# EAGLE library part BB_XQFP_080_065 (library dp_devices)
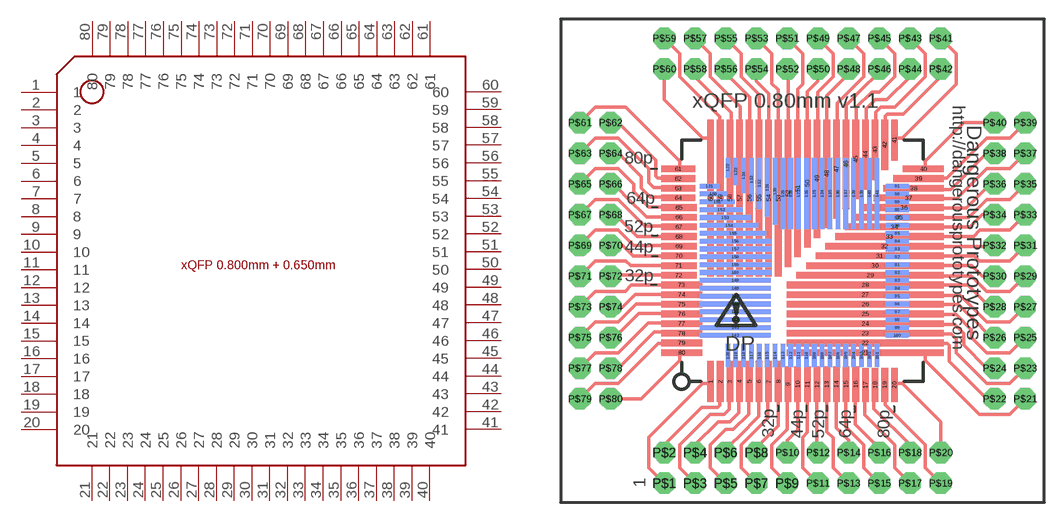
[diagram p127: symbol with the pads of BB_QFP_080_065_BREAKOUT_BOARD; footprint BB_QFP_080_065_BREAKOUT_BOARD]

Designator prefix IC

## BB_XQFP_080_065  [BB_QFP_080_065_BREAKOUT_BOARD]
1  1
2  2
3  3
4  4
5  5
6  6
7  7
8  8
9  9
10  10
11  11
12  12
13  13
14  14
15  15
16  16
17  17
18  18
19  19
20  20
21  21
22  22
23  23
24  24
25  25
26  26
27  27
28  28
29  29
30  30
31  31
32  32
33  33
34  34
35  35
36  36
37  37
38  38
39  39
40  40
41  41
42  42
43  43
44  44
45  45
46  46
47  47
48  48
49  49
50  50
51  51
52  52
53  53
54  54
55  55
56  56
57  57
58  58
59  59
60  60
61  61
62  62
63  63
64  64
65  65
66  66
67  67
68  68
69  69
70  70
71  71
72  72
73  73
74  74
75  75
76  76
77  77
78  78
79  79
80  80

## Footprint BB_QFP_080_065_BREAKOUT_BOARD (pad centres in mm)
QFP 0.65 mm pitch 52p (10mm sq) 80p (14mm sq) QFP 0.8 mm pitch 32p (7mm sq) 44p (10mm sq) 64p (14mm sq) 80p (16.5mm sq) CC-BY-SA
smd 0.55 x 3.405: 1 -7.6,-9.998; 2 -6.8,-9.998; 3 -6,-9.998; 4 -5.2,-9.998; 5 -4.4,-9.998; 6 -3.6,-9.998; 7 -2.8,-9.998; 8 -2,-9.998; 41 7.6,9.997
smd 0.55 x 2.95: 9 -1.2,-10.225; 10 -0.4,-10.225; 11 0.4,-10.225; 12 1.2,-10.225; 13 2,-10.225; 14 2.8,-10.225; 15 3.6,-10.225; 16 4.4,-10.225
smd 0.55 x 2.85: 17 5.2,-10.275; 18 6,-10.275; 19 6.8,-10.275; 20 7.6,-10.275
smd 13.005 x 0.55: 21 5.197,-7.6; 22 5.197,-6.8; 23 5.197,-6; 24 5.197,-5.2; 25 5.197,-4.4; 26 5.197,-3.6; 27 5.197,-2.8; 28 5.197,-2
smd 12.205 x 0.55: 29 5.597,-1.2
smd 11.405 x 0.55: 30 5.997,-0.4
smd 10.605 x 0.55: 31 6.397,0.4
smd 9.805 x 0.55: 32 6.797,1.2
smd 9.005 x 0.55: 33 7.197,2
smd 8.205 x 0.55: 34 7.597,2.8
smd 7.405 x 0.55: 35 7.997,3.6
smd 6.605 x 0.55: 36 8.397,4.4
smd 5.805 x 0.55: 37 8.797,5.2
smd 5.005 x 0.55: 38 9.197,6
smd 4.205 x 0.55: 39 9.597,6.8
smd 3.405 x 0.55: 40 9.997,7.6; 73 -9.998,-2; 74 -9.998,-2.8; 75 -9.998,-3.6; 76 -9.998,-4.4; 77 -9.998,-5.2; 78 -9.998,-6; 79 -9.998,-6.8; 80 -9.998,-7.6
smd 0.55 x 4.205: 42 6.8,9.597
smd 0.55 x 5.005: 43 6,9.197
smd 0.55 x 5.805: 44 5.2,8.797
smd 0.55 x 6.605: 45 4.4,8.397
smd 0.55 x 7.405: 46 3.6,7.997
smd 0.55 x 8.205: 47 2.8,7.597
smd 0.55 x 9.005: 48 2,7.197
smd 0.55 x 9.805: 49 1.2,6.797
smd 0.55 x 10.605: 50 0.4,6.397
smd 0.55 x 11.405: 51 -0.4,5.997
smd 0.55 x 12.205: 52 -1.2,5.597
smd 0.55 x 13.005: 53 -2,5.198; 54 -2.8,5.198; 55 -3.6,5.198; 56 -4.4,5.198; 57 -5.2,5.198; 58 -6,5.198; 59 -6.8,5.198; 60 -7.6,5.198
smd 2.85 x 0.55: 61 -10.275,7.6; 62 -10.275,6.8; 63 -10.275,6; 64 -10.275,5.2
smd 2.95 x 0.55: 65 -10.225,4.4; 66 -10.225,3.6; 67 -10.225,2.8; 68 -10.225,2; 69 -10.225,1.2; 70 -10.225,0.4; 71 -10.225,-0.4; 72 -10.225,-1.2
smd 1.875 x 0.38 bottom: 81 7.838,-0.325; 82 7.838,0.325; 83 7.838,0.975; 84 7.838,1.625; 85 7.838,2.275; 86 7.838,2.925; 87 7.838,3.575; 88 7.838,4.225; 89 7.838,4.875; 90 7.838,5.525; 91 7.838,6.175; 92 7.838,-0.975; 93 7.838,-1.625; 94 7.838,-2.275; 95 7.838,-2.925; 96 7.838,-3.575; 97 7.838,-4.225; 98 7.838,-4.875; 99 7.838,-5.525; 100 7.838,-6.175
smd 0.38 x 1.875 bottom: 101 6.175,-7.838; 102 5.525,-7.838; 103 4.875,-7.838; 104 4.225,-7.838; 105 3.575,-7.838; 106 2.925,-7.838; 107 2.275,-7.838; 108 1.625,-7.838; 109 0.975,-7.838; 110 0.325,-7.838; 111 -0.325,-7.838; 112 -0.975,-7.838; 113 -1.625,-7.838; 114 -2.275,-7.838; 115 -2.925,-7.838; 116 -3.575,-7.838; 117 -4.225,-7.838; 118 -4.875,-7.838; 119 -5.525,-7.838; 120 -6.175,-7.838
smd 1.6 x 0.38 bottom: 121 -7.7,6.175
smd 0.38 x 1.6 bottom: 122 -6.175,7.7
smd 0.38 x 2.25 bottom: 123 -5.525,7.375
smd 0.38 x 5.875 bottom: 124 1.625,5.563; 125 0.975,5.563; 126 0.325,5.563; 127 -0.325,5.563; 128 -0.975,5.563; 129 -1.625,5.563; 135 2.275,5.563; 136 2.925,5.563; 137 3.575,5.563; 138 4.225,5.563; 139 4.875,5.563; 140 5.525,5.563; 141 6.175,5.563
smd 0.38 x 5.5 bottom: 130 -2.275,5.75
smd 0.38 x 4.85 bottom: 131 -2.925,6.075
smd 0.38 x 4.2 bottom: 132 -3.575,6.4
smd 0.38 x 3.55 bottom: 133 -4.225,6.725
smd 0.38 x 2.9 bottom: 134 -4.875,7.05
smd 5.875 x 0.38 bottom: 142 -5.563,-6.175; 143 -5.563,-5.525; 144 -5.563,-4.875; 145 -5.563,-4.225; 146 -5.563,-3.575; 147 -5.563,-2.925; 148 -5.563,-2.275; 149 -5.563,-1.625; 156 -5.563,1.625; 157 -5.563,0.975; 158 -5.563,0.325; 159 -5.563,-0.325; 160 -5.563,-0.975
smd 2.25 x 0.38 bottom: 150 -7.375,5.525
smd 2.9 x 0.38 bottom: 151 -7.05,4.875
smd 3.55 x 0.38 bottom: 152 -6.725,4.225
smd 4.2 x 0.38 bottom: 153 -6.4,3.575
smd 4.85 x 0.38 bottom: 154 -6.075,2.925
smd 5.5 x 0.38 bottom: 155 -5.75,2.275
drill 1.016 pad 1.778 octagon: P$1 -11.43,-18.415; P$2 -11.43,-15.875; P$3 -8.89,-18.415; P$4 -8.89,-15.875; P$5 -6.35,-18.415; P$6 -6.35,-15.875; P$7 -3.81,-18.415; P$8 -3.81,-15.875; P$9 -1.27,-18.415; P$10 -1.27,-15.875; P$11 1.27,-18.415; P$12 1.27,-15.875; P$13 3.81,-18.415; P$14 3.81,-15.875; P$15 6.35,-18.415; P$16 6.35,-15.875; P$17 8.89,-18.415; P$18 8.89,-15.875; P$19 11.43,-18.415; P$20 11.43,-15.875; P$21 18.415,-11.43; P$22 15.875,-11.43; P$23 18.415,-8.89; P$24 15.875,-8.89; P$25 18.415,-6.35; P$26 15.875,-6.35; P$27 18.415,-3.81; P$28 15.875,-3.81; P$29 18.415,-1.27; P$30 15.875,-1.27; P$31 18.415,1.27; P$32 15.875,1.27; P$33 18.415,3.81; P$34 15.875,3.81; P$35 18.415,6.35; P$36 15.875,6.35; P$37 18.415,8.89; P$38 15.875,8.89; P$39 18.415,11.43; P$40 15.875,11.43; P$41 11.43,18.415; P$42 11.43,15.875; P$43 8.89,18.415; P$44 8.89,15.875; P$45 6.35,18.415; P$46 6.35,15.875; P$47 3.81,18.415; P$48 3.81,15.875; P$49 1.27,18.415; P$50 1.27,15.875; P$51 -1.27,18.415; P$52 -1.27,15.875; P$53 -3.81,18.415; P$54 -3.81,15.875; P$55 -6.35,18.415; P$56 -6.35,15.875; P$57 -8.89,18.415; P$58 -8.89,15.875; P$59 -11.43,18.415; P$60 -11.43,15.875; P$61 -18.415,11.43; P$62 -15.875,11.43; P$63 -18.415,8.89; P$64 -15.875,8.89; P$65 -18.415,6.35; P$66 -15.875,6.35; P$67 -18.415,3.81; P$68 -15.875,3.81; P$69 -18.415,1.27; P$70 -15.875,1.27; P$71 -18.415,-1.27; P$72 -15.875,-1.27; P$73 -18.415,-3.81; P$74 -15.875,-3.81; P$75 -18.415,-6.35; P$76 -15.875,-6.35; P$77 -18.415,-8.89; P$78 -15.875,-8.89; P$79 -18.415,-11.43; P$80 -15.875,-11.43